# Altium footprint library Ferrite Bead.PcbLib: 2 footprints
Each footprint in its own frame and in the unit in brackets; x right, y up, seen from the top. Pads: shape width x height; smd on the part's side, far side on the other; paste and mask are expansions set on the pad; w line width, h text height; cw(c..) or ccw(c..) is an arc to the next point about the centre after c.
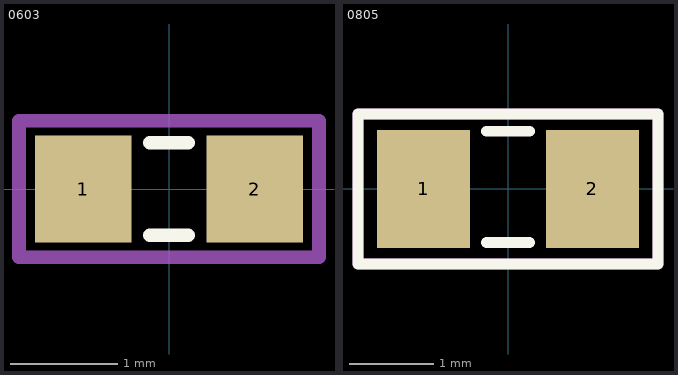
[diagram p0: the footprints below, top view; thin cyan lines are the x and y axes]

## 0603 [mm]
pads (2):
  rect 0.9x1 smd: 1(-0.8,0) 2(0.8,0)
Top Overlay:
  lines w0.127: -0.178,-0.432 0.178,-0.432 ; -0.178,0.432 0.178,0.432
Mechanical 13:
  lines w0.127: -1.397,-0.635 -1.397,0.635 1.397,0.635 1.397,-0.635 -1.397,-0.635
  text ".Designator" at -1.41,-0.21 h0.8
Mechanical 15:
  lines w0.127: -1.397,-0.635 1.397,-0.635 1.397,0.635 -1.397,0.635 -1.397,-0.635
  text ".Comment" at -1.4,-0.19 h0.8
3D body "User Library-FB_1608-1.STEP": height 0.8, standoff 0, extent -0.8,-0.4 0.8,0.4

## 0805 [mm]
pads (2):
  rect 1.1x1.397 smd: 1(-1,0) 2(1,0)
Top Overlay:
  lines w0.127: -0.254,-0.635 0.254,-0.635 ; -0.254,0.685 -0.127,0.685 0.127,0.685 0.254,0.685 ; -1.778,-0.889 1.778,-0.889 1.778,0.889 -1.778,0.889 -1.778,-0.889
Mechanical 13:
  lines w0.127: -1.778,-0.889 1.778,-0.889 1.778,0.889 -1.778,0.889 -1.778,-0.889
  text ".Designator" at -1.41,-0.21 h0.8
Mechanical 15:
  lines w0.127: -1.778,-0.889 1.778,-0.889 1.778,0.889 -1.778,0.889 -1.778,-0.889
  text ".Comment" at -1.4,-0.19 h0.8
3D body "User Library-FB_2012-1.STEP": height 0.85, standoff 0, extent -1,-0.625 1,0.625